# Altium footprint library AMP Footprints.PcbLib: 903 footprints (part 57 of 58)
Each footprint in its own frame and in the unit in brackets; x right, y up, seen from the top. Pads: shape width x height; smd on the part's side, far side on the other; paste and mask are expansions set on the pad; w line width, h text height; cw(c..) or ccw(c..) is an arc to the next point about the centre after c.
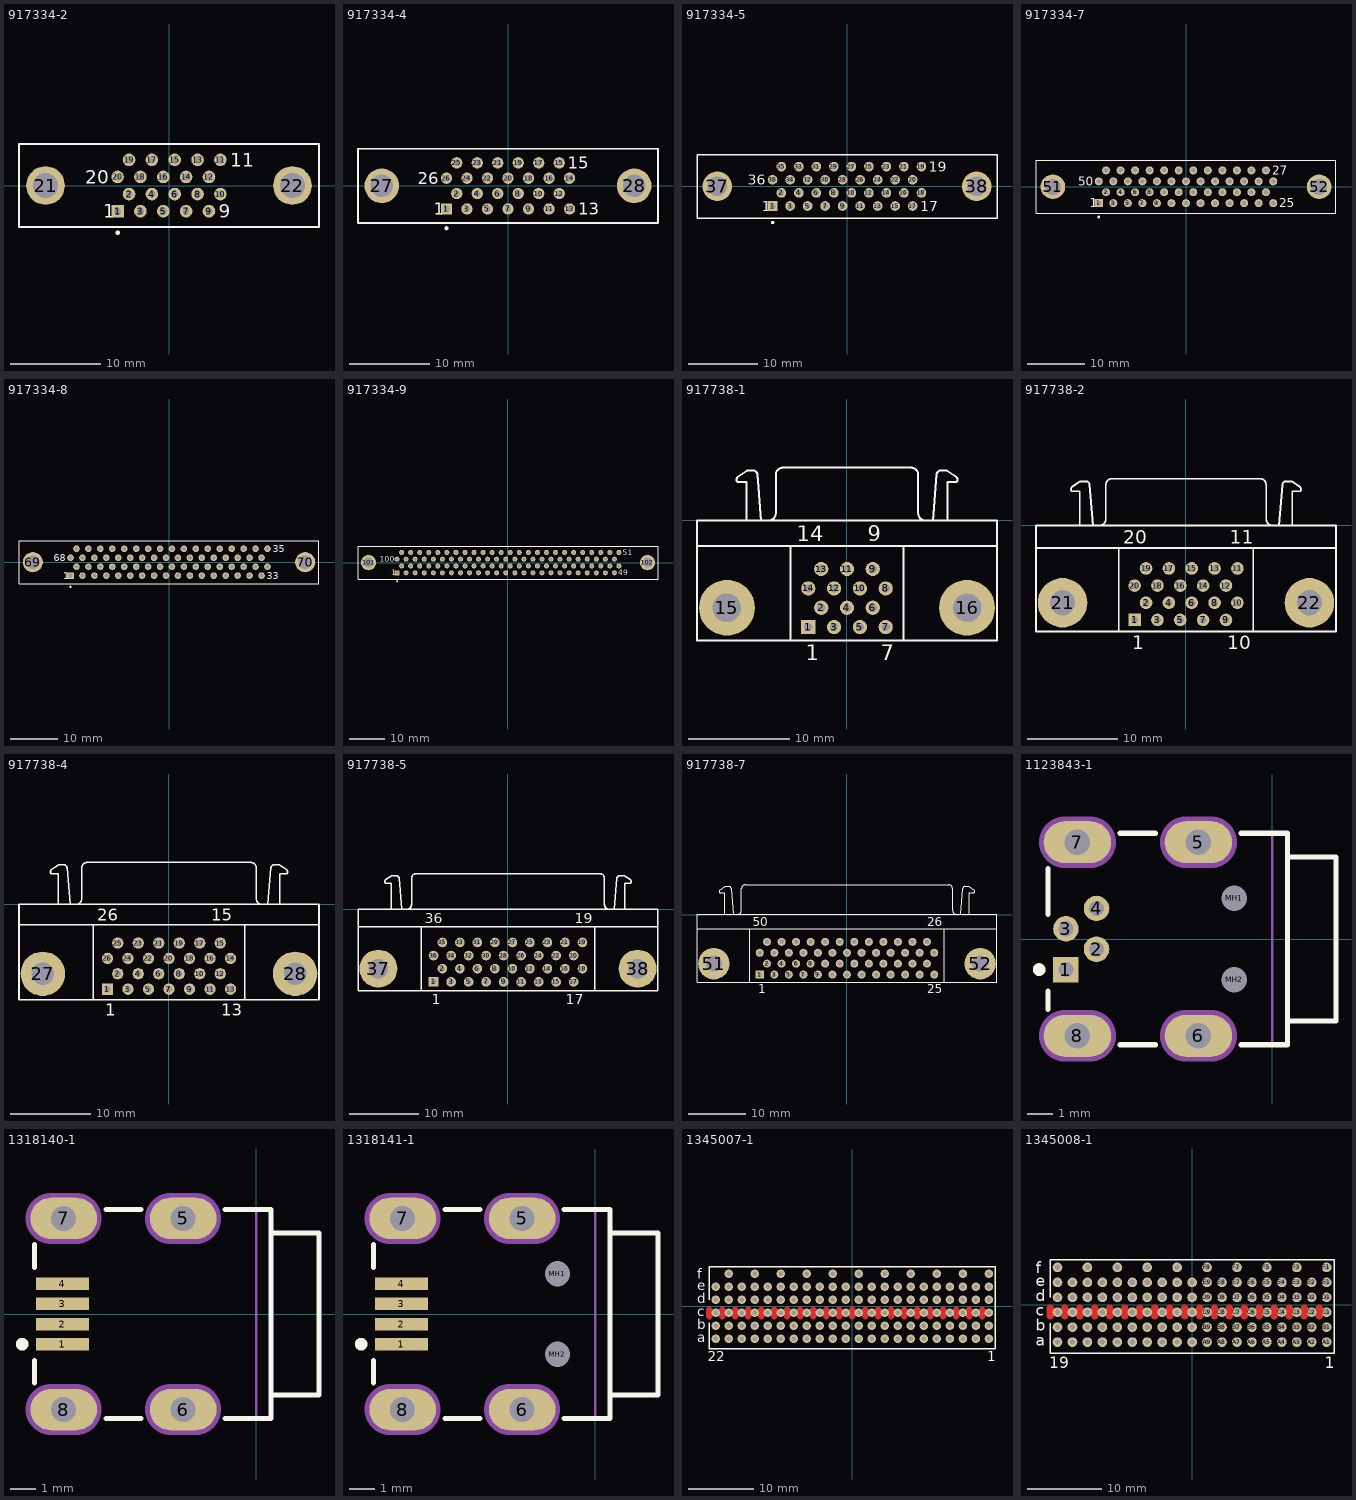
[diagram p56: the footprints below, top view; thin cyan lines are the x and y axes]

## 917334-2 [mm] "Connector; CHAMP Miniature Ribbon 050 Series II; 20 Position; Vertical"
height 11.1
pads (22):
  rect 1.4x1.4 hole 0.8: 1(-5.715,-2.857)
  round 1.4 hole 0.8: 2(-4.445,-0.953) 3(-3.175,-2.857) 4(-1.905,-0.953) 5(-0.635,-2.857) 6(0.635,-0.953) 7(1.905,-2.857) 8(3.175,-0.953) 9(4.445,-2.857) 10(5.715,-0.953) 11(5.715,2.857) 12(4.445,0.953) 13(3.175,2.857) 14(1.905,0.953) 15(0.635,2.857) 16(-0.635,0.953) 17(-1.905,2.857) 18(-3.175,0.953) 19(-4.445,2.857) 20(-5.715,0.953)
  round 4.3 hole 2.8: 21(-13.725,0) 22(13.725,0)
Top Overlay:
  circle w0.25: c-5.715,-5.25 r0.125
  lines w0.2: -16.675,-4.6 -16.675,4.6 16.675,4.6 16.675,-4.6 -16.675,-4.6
  text "1" at -7.29,-3.608 h1.5
  text "11" at 6.79,2.107 h1.5
  text "20" at -9.29,0.202 h1.5
  text "9" at 5.52,-3.608 h1.5

## 917334-4 [mm] "Connector; CHAMP Miniature Ribbon 050 Series II; 26 Position; Vertical"
height 11.1
pads (28):
  rect 1.4x1.4 hole 0.8: 1(-7.62,-2.857)
  round 1.4 hole 0.8: 2(-6.35,-0.953) 3(-5.08,-2.857) 4(-3.81,-0.953) 5(-2.54,-2.857) 6(-1.27,-0.953) 7(0,-2.857) 8(1.27,-0.953) 9(2.54,-2.857) 10(3.81,-0.953) 11(5.08,-2.857) 12(6.35,-0.953) 13(7.62,-2.857) 14(7.62,0.953) 15(6.35,2.857) 16(5.08,0.953) 17(3.81,2.857) 18(2.54,0.953) 19(1.27,2.857) 20(0,0.953) 21(-1.27,2.857) 22(-2.54,0.953) 23(-3.81,2.857) 24(-5.08,0.953) 25(-6.35,2.857) 26(-7.62,0.953)
  round 4.3 hole 2.8: 27(-15.63,0) 28(15.63,0)
Top Overlay:
  circle w0.25: c-7.62,-5.25 r0.125
  lines w0.2: -18.58,-4.6 -18.58,4.6 18.58,4.6 18.58,-4.6 -18.58,-4.6
  text "1" at -9.195,-3.608 h1.5
  text "13" at 8.695,-3.608 h1.5
  text "26" at -11.195,0.202 h1.5
  text "15" at 7.425,2.107 h1.5

## 917334-5 [mm] "Connector; CHAMP Miniature Ribbon 050 Series II; 36 Position; Vertical"
height 11.1
pads (38):
  rect 1.4x1.4 hole 0.8: 1(-10.795,-2.857)
  round 1.4 hole 0.8: 2(-9.525,-0.953) 3(-8.255,-2.857) 4(-6.985,-0.953) 5(-5.715,-2.857) 6(-4.445,-0.953) 7(-3.175,-2.857) 8(-1.905,-0.953) 9(-0.635,-2.857) 10(0.635,-0.953) 11(1.905,-2.857) 12(3.175,-0.953) 13(4.445,-2.857) 14(5.715,-0.953) 15(6.985,-2.857) 16(8.255,-0.953) 17(9.525,-2.857) 18(10.795,-0.953) 19(10.795,2.857) 20(9.525,0.953) 21(8.255,2.857) 22(6.985,0.953) 23(5.715,2.857) 24(4.445,0.953) 25(3.175,2.857) 26(1.905,0.953) 27(0.635,2.857) 28(-0.635,0.953) 29(-1.905,2.857) 30(-3.175,0.953) 31(-4.445,2.857) 32(-5.715,0.953) 33(-6.985,2.857) 34(-8.255,0.953) 35(-9.525,2.857) 36(-10.795,0.953)
  round 4.3 hole 2.8: 37(-18.805,0) 38(18.805,0)
Top Overlay:
  circle w0.25: c-10.795,-5.25 r0.125
  lines w0.2: -21.755,-4.6 21.755,-4.6 21.755,4.6 -21.755,4.6 -21.755,-4.6
  text "19" at 11.87,2.107 h1.5
  text "36" at -14.37,0.202 h1.5
  text "17" at 10.6,-3.608 h1.5
  text "1" at -12.37,-3.608 h1.5

## 917334-7 [mm] "Connector; CHAMP Miniature Ribbon 050 Series II; 50 Position; Vertical"
height 11.1
pads (52):
  rect 1.4x1.4 hole 0.8: 1(-15.24,-2.857)
  round 1.4 hole 0.8: 2(-13.97,-0.953) 3(-12.7,-2.857) 4(-11.43,-0.953) 5(-10.16,-2.857) 6(-8.89,-0.953) 7(-7.62,-2.857) 8(-6.35,-0.953) 9(-5.08,-2.857) 10(-3.81,-0.953) 11(-2.54,-2.857) 12(-1.27,-0.953) 13(0,-2.857) 14(1.27,-0.953) 15(2.54,-2.857) 16(3.81,-0.953) 17(5.08,-2.857) 18(6.35,-0.953) 19(7.62,-2.857) 20(8.89,-0.953) 21(10.16,-2.857) 22(11.43,-0.953) 23(12.7,-2.857) 24(13.97,-0.953) 25(15.24,-2.857) 26(15.24,0.953) 27(13.97,2.857) 28(12.7,0.953) 29(11.43,2.857) 30(10.16,0.953) 31(8.89,2.857) 32(7.62,0.953) 33(6.35,2.857) 34(5.08,0.953) 35(3.81,2.857) 36(2.54,0.953) 37(1.27,2.857) 38(0,0.953) 39(-1.27,2.857) 40(-2.54,0.953) 41(-3.81,2.857) 42(-5.08,0.953) 43(-6.35,2.857) 44(-7.62,0.953) 45(-8.89,2.857) 46(-10.16,0.953) 47(-11.43,2.857) 48(-12.7,0.953) 49(-13.97,2.857) 50(-15.24,0.953)
  round 4.3 hole 2.8: 51(-23.25,0) 52(23.25,0)
Top Overlay:
  circle w0.25: c-15.24,-5.25 r0.125
  lines w0.2: -26.2,-4.6 26.2,-4.6 26.2,4.6 -26.2,4.6 -26.2,-4.6
  text "25" at 16.315,-3.608 h1.5
  text "50" at -18.815,0.202 h1.5
  text "27" at 15.045,2.107 h1.5
  text "1" at -16.815,-3.608 h1.5

## 917334-8 [mm] "Connector; CHAMP Miniature Ribbon 050 Series II; 68 Position; Vertical"
height 11.1
pads (70):
  rect 1.4x1.4 hole 0.8: 1(-20.955,-2.857)
  round 1.4 hole 0.8: 2(-19.685,-0.953) 3(-18.415,-2.857) 4(-17.145,-0.953) 5(-15.875,-2.857) 6(-14.605,-0.953) 7(-13.335,-2.857) 8(-12.065,-0.953) 9(-10.795,-2.857) 10(-9.525,-0.953) 11(-8.255,-2.857) 12(-6.985,-0.953) 13(-5.715,-2.857) 14(-4.445,-0.953) 15(-3.175,-2.857) 16(-1.905,-0.953) 17(-0.635,-2.857) 18(0.635,-0.953) 19(1.905,-2.857) 20(3.175,-0.953) 21(4.445,-2.857) 22(5.715,-0.953) 23(6.985,-2.857) 24(8.255,-0.953) 25(9.525,-2.857) 26(10.795,-0.953) 27(12.065,-2.857) 28(13.335,-0.953) 29(14.605,-2.857) 30(15.875,-0.953) 31(17.145,-2.857) 32(18.415,-0.953) 33(19.685,-2.857) 34(20.955,-0.953) 35(20.955,2.857) 36(19.685,0.953) 37(18.415,2.857) 38(17.145,0.953) 39(15.875,2.857) 40(14.605,0.953) 41(13.335,2.857) 42(12.065,0.953) 43(10.795,2.857) 44(9.525,0.953) 45(8.255,2.857) 46(6.985,0.953) 47(5.715,2.857) 48(4.445,0.953) 49(3.175,2.857) 50(1.905,0.953) 51(0.635,2.857) 52(-0.635,0.953) 53(-1.905,2.857) 54(-3.175,0.953) 55(-4.445,2.857) 56(-5.715,0.953) 57(-6.985,2.857) 58(-8.255,0.953) 59(-9.525,2.857) 60(-10.795,0.953) 61(-12.065,2.857) 62(-13.335,0.953) 63(-14.605,2.857) 64(-15.875,0.953) 65(-17.145,2.857) 66(-18.415,0.953) 67(-19.685,2.857) 68(-20.955,0.953)
  round 4.3 hole 2.8: 69(-28.965,0) 70(28.965,0)
Top Overlay:
  circle w0.25: c-20.955,-5.25 r0.125
  lines w0.2: -31.915,-4.6 31.915,-4.6 31.915,4.6 -31.915,4.6 -31.915,-4.6
  text "1" at -22.53,-3.608 h1.5
  text "33" at 20.76,-3.608 h1.5
  text "68" at -24.53,0.202 h1.5
  text "35" at 22.03,2.107 h1.5

## 917334-9 [mm] "Connector; CHAMP Miniature Ribbon 050 Series II; 100 Position; Vertical"
height 11.1
pads (102):
  rect 1.4x1.4 hole 0.8: 1(-31.115,-2.857)
  round 1.4 hole 0.8: 2(-29.845,-0.953) 3(-28.575,-2.857) 4(-27.305,-0.953) 5(-26.035,-2.857) 6(-24.765,-0.953) 7(-23.495,-2.857) 8(-22.225,-0.953) 9(-20.955,-2.857) 10(-19.685,-0.953) 11(-18.415,-2.857) 12(-17.145,-0.953) 13(-15.875,-2.857) 14(-14.605,-0.953) 15(-13.335,-2.857) 16(-12.065,-0.953) 17(-10.795,-2.857) 18(-9.525,-0.953) 19(-8.255,-2.857) 20(-6.985,-0.953) 21(-5.715,-2.857) 22(-4.445,-0.953) 23(-3.175,-2.857) 24(-1.905,-0.953) 25(-0.635,-2.857) 26(0.635,-0.953) 27(1.905,-2.857) 28(3.175,-0.953) 29(4.445,-2.857) 30(5.715,-0.953) 31(6.985,-2.857) 32(8.255,-0.953) 33(9.525,-2.857) 34(10.795,-0.953) 35(12.065,-2.857) 36(13.335,-0.953) 37(14.605,-2.857) 38(15.875,-0.953) 39(17.145,-2.857) 40(18.415,-0.953) 41(19.685,-2.857) 42(20.955,-0.953) 43(22.225,-2.857) 44(23.495,-0.953) 45(24.765,-2.857) 46(26.035,-0.953) 47(27.305,-2.857) 48(28.575,-0.953) 49(29.845,-2.857) 50(31.115,-0.953) 51(31.115,2.857) 52(29.845,0.953) 53(28.575,2.857) 54(27.305,0.953) 55(26.035,2.857) 56(24.765,0.953) 57(23.495,2.857) 58(22.225,0.953) 59(20.955,2.857) 60(19.685,0.953) 61(18.415,2.857) 62(17.145,0.953) 63(15.875,2.857) 64(14.605,0.953) 65(13.335,2.857) 66(12.065,0.953) 67(10.795,2.857) 68(9.525,0.953) 69(8.255,2.857) 70(6.985,0.953) 71(5.715,2.857) 72(4.445,0.953) 73(3.175,2.857) 74(1.905,0.953) 75(0.635,2.857) 76(-0.635,0.953) 77(-1.905,2.857) 78(-3.175,0.953) 79(-4.445,2.857) 80(-5.715,0.953) 81(-6.985,2.857) 82(-8.255,0.953) 83(-9.525,2.857) 84(-10.795,0.953) 85(-12.065,2.857) 86(-13.335,0.953) 87(-14.605,2.857) 88(-15.875,0.953) 89(-17.145,2.857) 90(-18.415,0.953) 91(-19.685,2.857) 92(-20.955,0.953) 93(-22.225,2.857) 94(-23.495,0.953) 95(-24.765,2.857) 96(-26.035,0.953) 97(-27.305,2.857) 98(-28.575,0.953) 99(-29.845,2.857) 100(-31.115,0.953)
  round 4.3 hole 2.8: 101(-39.125,0) 102(39.125,0)
Top Overlay:
  circle w0.25: c-31.115,-5.25 r0.125
  lines w0.2: -42.075,-4.6 42.075,-4.6 42.075,4.6 -42.075,4.6 -42.075,-4.6
  text "51" at 32.19,2.107 h1.5
  text "49" at 30.92,-3.608 h1.5
  text "1" at -32.69,-3.608 h1.5
  text "100" at -35.94,0.202 h1.5

## 917738-1 [mm] "Connector; CHAMP Miniature Ribbon 050 Series II; 14 Position; Right Angle"
height 9.6
pads (16):
  rect 1.4x1.4 hole 0.8: 1(-3.81,-10.5)
  round 1.4 hole 0.8: 2(-2.54,-8.595) 3(-1.27,-10.5) 4(0,-8.595) 5(1.27,-10.5) 6(2.54,-8.595) 7(3.81,-10.5) 8(3.81,-6.69) 9(2.54,-4.785) 10(1.27,-6.69) 11(0,-4.785) 12(-1.27,-6.69) 13(-2.54,-4.785) 14(-3.81,-6.69)
  round 5.5 hole 2.8: 15(-11.82,-8.595) 16(11.82,-8.595)
Top Overlay:
  lines w0.2: -14.77,-2.5 14.77,-2.5 ; -10.785,4.27 -9.845,4.898 -9.123,4.898 cw(c-9.225,4.5) -8.815,4.5 ; -10.771,4.255 ccw(c-10.545,4.01) -10.795,3.79 -9.915,3.79 -9.915,0 ; -8.815,4.52 -8.445,0 ; -7.705,0.005 ccw(c-7.705,0.7) -7.01,0.7 -7.01,4.5 ; -7.005,4.505 cw(c-6.31,4.505) -6.31,5.2 6.31,5.2 cw(c6.31,4.505) 7.005,4.505 ; -5.57,-11.8 -5.57,-2.58 ; 5.57,-11.8 5.57,-2.5 ; 7.01,4.5 7.01,0.7 ccw(c7.705,0.7) 7.705,0.005 ; 8.445,0 8.815,4.52 ; 8.815,4.5 cw(c9.225,4.5) 9.123,4.898 9.845,4.898 10.785,4.27 ; 9.915,0 9.915,3.79 10.795,3.79 ccw(c10.545,4.01) 10.771,4.255 ; -14.77,-11.8 14.77,-11.8 14.77,0 -14.77,0 -14.77,-11.8
  text "9" at 2.04,-2.025 h1.5
  text "14" at -4.935,-2.025 h1.5
  text "1" at -4.06,-13.775 h1.5
  text "7" at 3.31,-13.775 h1.5

## 917738-2 [mm] "Connector; CHAMP Miniature Ribbon 050 Series II; 20 Position; Right Angle"
height 9.6
pads (22):
  rect 1.4x1.4 hole 0.8: 1(-5.715,-10.5)
  round 1.4 hole 0.8: 2(-4.445,-8.595) 3(-3.175,-10.5) 4(-1.905,-8.595) 5(-0.635,-10.5) 6(0.635,-8.595) 7(1.905,-10.5) 8(3.175,-8.595) 9(4.445,-10.5) 10(5.715,-8.595) 11(5.715,-4.785) 12(4.445,-6.69) 13(3.175,-4.785) 14(1.905,-6.69) 15(0.635,-4.785) 16(-0.635,-6.69) 17(-1.905,-4.785) 18(-3.175,-6.69) 19(-4.445,-4.785) 20(-5.715,-6.69)
  round 5.5 hole 2.8: 21(-13.725,-8.595) 22(13.725,-8.595)
Top Overlay:
  lines w0.2: -16.675,-2.5 16.675,-2.5 ; -12.69,4.27 -11.75,4.898 -11.028,4.898 cw(c-11.13,4.5) -10.72,4.5 ; -12.676,4.255 ccw(c-12.45,4.01) -12.7,3.79 -11.82,3.79 -11.82,0 ; -10.72,4.52 -10.35,0 ; -9.61,0.005 ccw(c-9.61,0.7) -8.915,0.7 -8.915,4.5 ; -8.91,4.505 cw(c-8.215,4.505) -8.215,5.2 8.215,5.2 cw(c8.215,4.505) 8.91,4.505 ; -7.475,-11.8 -7.475,-2.58 ; 7.475,-11.8 7.475,-2.5 ; 8.915,4.5 8.915,0.7 ccw(c9.61,0.7) 9.61,0.005 ; 10.35,0 10.72,4.52 ; 10.72,4.5 cw(c11.13,4.5) 11.028,4.898 11.75,4.898 12.69,4.27 ; 11.82,0 11.82,3.79 12.7,3.79 ccw(c12.45,4.01) 12.676,4.255 ; -16.675,-11.8 16.675,-11.8 16.675,0 -16.675,0 -16.675,-11.8
  text "11" at 4.84,-2.025 h1.5
  text "20" at -6.965,-2.025 h1.5
  text "10" at 4.59,-13.775 h1.5
  text "1" at -5.965,-13.775 h1.5

## 917738-4 [mm] "Connector; CHAMP Miniature Ribbon 050 Series II; 26 Position; Right Angle"
height 9.6
pads (28):
  rect 1.4x1.4 hole 0.8: 1(-7.62,-10.5)
  round 1.4 hole 0.8: 2(-6.35,-8.595) 3(-5.08,-10.5) 4(-3.81,-8.595) 5(-2.54,-10.5) 6(-1.27,-8.595) 7(0,-10.5) 8(1.27,-8.595) 9(2.54,-10.5) 10(3.81,-8.595) 11(5.08,-10.5) 12(6.35,-8.595) 13(7.62,-10.5) 14(7.62,-6.69) 15(6.35,-4.785) 16(5.08,-6.69) 17(3.81,-4.785) 18(2.54,-6.69) 19(1.27,-4.785) 20(0,-6.69) 21(-1.27,-4.785) 22(-2.54,-6.69) 23(-3.81,-4.785) 24(-5.08,-6.69) 25(-6.35,-4.785) 26(-7.62,-6.69)
  round 5.5 hole 2.8: 27(-15.63,-8.595) 28(15.63,-8.595)
Top Overlay:
  lines w0.2: -18.58,-2.5 18.58,-2.5 ; -14.595,4.27 -13.655,4.898 -12.933,4.898 cw(c-13.035,4.5) -12.625,4.5 ; -14.581,4.255 ccw(c-14.355,4.01) -14.605,3.79 -13.725,3.79 -13.725,0 ; -12.625,4.52 -12.255,0 ; -11.515,0.005 ccw(c-11.515,0.7) -10.82,0.7 -10.82,4.5 ; -10.815,4.505 cw(c-10.12,4.505) -10.12,5.2 10.12,5.2 cw(c10.12,4.505) 10.815,4.505 ; -9.38,-11.8 -9.38,-2.58 ; 9.38,-11.8 9.38,-2.5 ; 10.82,4.5 10.82,0.7 ccw(c11.515,0.7) 11.515,0.005 ; 12.255,0 12.625,4.52 ; 12.625,4.5 cw(c13.035,4.5) 12.933,4.898 13.655,4.898 14.595,4.27 ; 13.725,0 13.725,3.79 14.605,3.79 ccw(c14.355,4.01) 14.581,4.255 ; -18.58,-11.8 -18.58,0 18.58,0 18.58,-11.8 -18.58,-11.8
  text "13" at 6.495,-13.775 h1.5
  text "26" at -8.87,-2.025 h1.5
  text "15" at 5.225,-2.025 h1.5
  text "1" at -7.87,-13.775 h1.5

## 917738-5 [mm] "Connector; CHAMP Miniature Ribbon 050 Series II; 36 Position; Right Angle"
height 9.6
pads (38):
  rect 1.4x1.4 hole 0.8: 1(-10.795,-10.5)
  round 1.4 hole 0.8: 2(-9.525,-8.595) 3(-8.255,-10.5) 4(-6.985,-8.595) 5(-5.715,-10.5) 6(-4.445,-8.595) 7(-3.175,-10.5) 8(-1.905,-8.595) 9(-0.635,-10.5) 10(0.635,-8.595) 11(1.905,-10.5) 12(3.175,-8.595) 13(4.445,-10.5) 14(5.715,-8.595) 15(6.985,-10.5) 16(8.255,-8.595) 17(9.525,-10.5) 18(10.795,-8.595) 19(10.795,-4.785) 20(9.525,-6.69) 21(8.255,-4.785) 22(6.985,-6.69) 23(5.715,-4.785) 24(4.445,-6.69) 25(3.175,-4.785) 26(1.905,-6.69) 27(0.635,-4.785) 28(-0.635,-6.69) 29(-1.905,-4.785) 30(-3.175,-6.69) 31(-4.445,-4.785) 32(-5.715,-6.69) 33(-6.985,-4.785) 34(-8.255,-6.69) 35(-9.525,-4.785) 36(-10.795,-6.69)
  round 5.5 hole 2.8: 37(-18.805,-8.595) 38(18.805,-8.595)
Top Overlay:
  lines w0.2: -21.755,-2.5 21.755,-2.5 ; -17.77,4.27 -16.83,4.898 -16.108,4.898 cw(c-16.21,4.5) -15.8,4.5 ; -17.756,4.255 ccw(c-17.53,4.01) -17.78,3.79 -16.9,3.79 -16.9,0 ; -15.8,4.52 -15.43,0 ; -14.69,0.005 ccw(c-14.69,0.7) -13.995,0.7 -13.995,4.5 ; -13.99,4.505 cw(c-13.295,4.505) -13.295,5.2 13.295,5.2 cw(c13.295,4.505) 13.99,4.505 ; -12.555,-11.8 -12.555,-2.58 ; 12.555,-11.8 12.555,-2.5 ; 13.995,4.5 13.995,0.7 ccw(c14.69,0.7) 14.69,0.005 ; 15.43,0 15.8,4.52 ; 15.8,4.5 cw(c16.21,4.5) 16.108,4.898 16.83,4.898 17.77,4.27 ; 16.9,0 16.9,3.79 17.78,3.79 ccw(c17.53,4.01) 17.756,4.255 ; -21.755,-11.8 21.755,-11.8 21.755,0 -21.755,0 -21.755,-11.8
  text "19" at 9.67,-2.025 h1.5
  text "36" at -12.045,-2.025 h1.5
  text "17" at 8.4,-13.775 h1.5
  text "1" at -11.045,-13.775 h1.5

## 917738-7 [mm] "Connector; CHAMP Miniature Ribbon 050 Series II; 50 Position; Right Angle"
height 9.6
pads (52):
  rect 1.4x1.4 hole 0.8: 1(-15.24,-10.477)
  round 1.4 hole 0.8: 2(-13.97,-8.572) 3(-12.7,-10.477) 4(-11.43,-8.572) 5(-10.16,-10.477) 6(-8.89,-8.572) 7(-7.62,-10.477) 8(-6.35,-8.572) 9(-5.08,-10.477) 10(-3.81,-8.572) 11(-2.54,-10.477) 12(-1.27,-8.572) 13(0,-10.477) 14(1.27,-8.572) 15(2.54,-10.477) 16(3.81,-8.572) 17(5.08,-10.477) 18(6.35,-8.572) 19(7.62,-10.477) 20(8.89,-8.572) 21(10.16,-10.477) 22(11.43,-8.572) 23(12.7,-10.477) 24(13.97,-8.572) 25(15.24,-10.477) 26(15.24,-6.667) 27(13.97,-4.763) 28(12.7,-6.667) 29(11.43,-4.763) 30(10.16,-6.667) 31(8.89,-4.763) 32(7.62,-6.667) 33(6.35,-4.763) 34(5.08,-6.667) 35(3.81,-4.763) 36(2.54,-6.667) 37(1.27,-4.763) 38(0,-6.667) 39(-1.27,-4.763) 40(-2.54,-6.667) 41(-3.81,-4.763) 42(-5.08,-6.667) 43(-6.35,-4.763) 44(-7.62,-6.667) 45(-8.89,-4.763) 46(-10.16,-6.667) 47(-11.43,-4.763) 48(-12.7,-6.667) 49(-13.97,-4.763) 50(-15.24,-6.667)
  round 5.5 hole 2.8: 51(-23.25,-8.572) 52(23.25,-8.572)
Top Overlay:
  lines w0.2: -26.2,-2.478 26.2,-2.478 ; -22.215,4.292 -21.275,4.92 -20.553,4.92 cw(c-20.655,4.523) -20.245,4.523 ; -22.201,4.277 ccw(c-21.975,4.032) -22.225,3.812 -21.345,3.813 -21.345,0.022 ; -20.245,4.543 -19.875,0.022 ; -19.135,0.028 ccw(c-19.135,0.723) -18.44,0.723 -18.44,4.523 ; -18.435,4.527 cw(c-17.74,4.527) -17.74,5.222 17.74,5.222 cw(c17.74,4.527) 18.435,4.527 ; -17,-11.777 -17,-2.558 ; 17,-11.777 17,-2.478 ; 18.44,4.523 18.44,0.723 ccw(c19.135,0.723) 19.135,0.028 ; 19.875,0.022 20.245,4.543 ; 20.245,4.523 cw(c20.655,4.523) 20.553,4.92 21.275,4.92 22.215,4.292 ; 21.345,0.022 21.345,3.812 22.225,3.813 ccw(c21.975,4.032) 22.201,4.277 ; -26.2,-11.777 -26.2,0.022 26.2,0.022 26.2,-11.777 -26.2,-11.777
  text "1" at -15.49,-13.752 h1.5
  text "25" at 13.99,-13.752 h1.5
  text "50" at -16.49,-2.003 h1.5
  text "26" at 13.99,-2.003 h1.5

## 1123843-1 [mm] "Connector; IEEE1394, Thru-Hole; 4 Position; Vertical"
height 9.7
pads (10):
  rect 1x1 hole 0.6: 1(-8.1,-1.199)
  round 1 hole 0.6: 2(-6.9,-0.399) 3(-8.1,0.401) 4(-6.9,1.201)
  oval 2.65x1.65 hole 1: 5(-2.9,3.801) 6(-2.9,-3.799) 7(-7.65,3.801) 8(-7.65,-3.799)
  round 0.7 hole 1 unplated: MH1(-1.5,1.601) MH2(-1.5,-1.599)
Top Overlay:
  circle w0.25: c-9.151,-1.199 r0.125
  lines w0.2: -8.8,-2.759 -8.8,-2.049 ; -8.8,0.971 -8.8,2.761 ; -5.97,-4.149 -4.58,-4.149 ; -5.97,4.151 -4.58,4.151 ; -1.23,-4.149 0.6,-4.149 0.6,4.151 -1.23,4.151 ; 0.6,-3.224 2.5,-3.224 2.5,3.226 0.6,3.226
Mechanical 1:
  lines w0.1: 0,-4.149 0,4.151
  lines w1: -8.15,-3.799 -7.15,-3.799 ; -8.15,3.801 -7.15,3.801 ; -3.4,-3.799 -2.4,-3.799 ; -3.4,3.801 -2.4,3.801
  text "Alert PCB fab to slot details" at -9.5,6.571 h0.3
  text "Slot 1x2mm, PTH" at -9.5,6.071 h0.3
  text "Assign keep-out area to slot" at -9.5,7.071 h0.3
  text "Mech 1 - Slot cut-out" at -9.5,5.571 h0.3
  text "Mech 2 - Clearance, move to internal plane if present" at -9.5,5.071 h0.3
  text "PCB Edge" at 0.37,-3.705 h0.25
Mechanical 2:
  lines w2.016: -8.15,-3.799 -7.15,-3.799 ; -8.15,3.801 -7.15,3.801 ; -3.4,-3.799 -2.4,-3.799 ; -3.4,3.801 -2.4,3.801

## 1318140-1 [mm] "Connector; IEEE1394, SM; 4 Position; Vertical"
height 11.1
pads (8):
  rect 2.1x0.5 smd: 1(-7.7,-1.199) 2(-7.7,-0.399) 3(-7.7,0.401) 4(-7.7,1.201)
  oval 2.65x1.65 hole 1: 5(-2.9,3.801) 6(-2.9,-3.799) 7(-7.65,3.801) 8(-7.65,-3.799)
Top Overlay:
  circle w0.25: c-9.3,-1.199 r0.125
  lines w0.2: -8.8,-2.749 -8.8,-1.849 ; -8.8,1.85 -8.8,2.76 ; -5.97,-4.149 -4.58,-4.149 ; -5.97,4.151 -4.58,4.151 ; -1.23,-4.149 0.6,-4.149 0.6,4.15 -1.23,4.151 ; 0.6,-3.224 2.5,-3.224 2.5,3.226 0.6,3.226
Mechanical 1:
  lines w0.1: 0,-4.149 0,4.151
  lines w1: -8.15,-3.799 -7.15,-3.799 ; -8.15,3.801 -7.15,3.801 ; -3.4,-3.799 -2.4,-3.799 ; -3.4,3.801 -2.4,3.801
  text "PCB Edge" at 0.35,-3.6 h0.25
  text "Mech 2 - Clearance, move to internal plane if present" at -9.5,5.071 h0.3
  text "Mech 1 - Slot cut-out" at -9.5,5.57 h0.3
  text "Assign keep-out area to slot" at -9.5,7.071 h0.3
  text "Slot 1x2mm, PTH" at -9.5,6.071 h0.3
  text "Alert PCB fab to slot details" at -9.5,6.57 h0.3
Mechanical 2:
  lines w2.016: -8.15,-3.799 -7.15,-3.799 ; -8.15,3.801 -7.15,3.801 ; -3.4,-3.799 -2.4,-3.799 ; -3.4,3.801 -2.4,3.801

## 1318141-1 [mm] "Connector; IEEE1394, SM; 4 Position; Vertical"
height 9.7
pads (10):
  rect 2.1x0.5 smd: 1(-7.7,-1.2) 2(-7.7,-0.4) 3(-7.7,0.4) 4(-7.7,1.2)
  oval 2.65x1.65 hole 1: 5(-2.9,3.8) 6(-2.9,-3.8) 7(-7.65,3.8) 8(-7.65,-3.8)
  round 0.7 hole 1 unplated: MH1(-1.5,1.6) MH2(-1.5,-1.6)
Top Overlay:
  circle w0.25: c-9.3,-1.2 r0.125
  lines w0.2: -8.8,-2.75 -8.8,-1.85 ; -8.8,1.85 -8.8,2.76 ; -5.97,-4.15 -4.58,-4.15 ; -5.97,4.15 -4.58,4.15 ; -1.229,-4.149 0.6,-4.149 ; -1.229,4.151 0.6,4.151 0.6,-4.15 ; 0.6,-3.225 2.5,-3.225 2.5,3.225 0.6,3.225
Mechanical 1:
  lines w0.1: 0,-4.15 0,4.15
  lines w1: -8.15,-3.8 -7.15,-3.8 ; -8.15,3.8 -7.15,3.8 ; -3.4,-3.8 -2.4,-3.8 ; -3.4,3.8 -2.4,3.8
  text "Alert PCB fab to slot details" at -9.5,6.57 h0.3
  text "Slot 1x2mm, PTH" at -9.5,6.07 h0.3
  text "Assign keep-out area to slot" at -9.5,7.07 h0.3
  text "Mech 1 - Slot cut-out" at -9.5,5.57 h0.3
  text "Mech 2 - Clearance, move to internal plane if present" at -9.5,5.07 h0.3
  text "PCB Edge" at 0.35,-3.6 h0.25
Mechanical 2:
  lines w2.016: -8.15,-3.8 -7.15,-3.8 ; -8.15,3.8 -7.15,3.8 ; -3.4,-3.8 -2.4,-3.8 ; -3.4,3.8 -2.4,3.8

## 1345007-1 [mm] "Connector; CompactPCI; 110 Position; Right Angle"
height 8.2
pads (121):
  round 1.3 hole 0.7: A1(21,-5) A2(19,-5) A3(17,-5) A4(15,-5) A5(13,-5) A6(11,-5) A7(9,-5) A8(7,-5) A9(5,-5) A10(3,-5) A11(1,-5) A12(-1,-5) A13(-3,-5) A14(-5,-5) A15(-7,-5) A16(-9,-5) A17(-11,-5) A18(-13,-5) A19(-15,-5) A20(-17,-5) A21(-19,-5) A22(-21,-5) B1(21,-3) B2(19,-3) B3(17,-3) B4(15,-3) B5(13,-3) B6(11,-3) B7(9,-3) B8(7,-3) B9(5,-3) B10(3,-3) B11(1,-3) B12(-1,-3) B13(-3,-3) B14(-5,-3) B15(-7,-3) B16(-9,-3) B17(-11,-3) B18(-13,-3) B19(-15,-3) B20(-17,-3) B21(-19,-3) B22(-21,-3) C1(21,-1) C2(19,-1) C3(17,-1) C4(15,-1) C5(13,-1) C6(11,-1) C7(9,-1) C8(7,-1) C9(5,-1) C10(3,-1) C11(1,-1) C12(-1,-1) C13(-3,-1) C14(-5,-1) C15(-7,-1) C16(-9,-1) C17(-11,-1) C18(-13,-1) C19(-15,-1) C20(-17,-1) C21(-19,-1) C22(-21,-1) D1(21,1) D2(19,1) D3(17,1) D4(15,1) D5(13,1) D6(11,1) D7(9,1) D8(7,1) D9(5,1) D10(3,1) D11(1,1) D12(-1,1) D13(-3,1) D14(-5,1) D15(-7,1) D16(-9,1) D17(-11,1) D18(-13,1) D19(-15,1) D20(-17,1) D21(-19,1) D22(-21,1) E1(21,3) E2(19,3) E3(17,3) E4(15,3) E5(13,3) E6(11,3) E7(9,3) E8(7,3) E9(5,3) E10(3,3) E11(1,3) E12(-1,3) E13(-3,3) E14(-5,3) E15(-7,3) E16(-9,3) E17(-11,3) E18(-13,3) E19(-15,3) E20(-17,3) E21(-19,3) E22(-21,3) F1(21,5) F3(17,5) F5(13,5) F7(9,5) F9(5,5) F11(1,5) F13(-3,5) F15(-7,5) F17(-11,5) F19(-15,5) F21(-19,5)
Top Layer:
  lines w1: -22,-1.5 -22,-0.5 ; -20,-1.5 -20,-0.5 ; -18,-1.5 -18,-0.5 ; -16,-1.5 -16,-0.5 ; -14,-1.5 -14,-0.5 ; -12,-1.5 -12,-0.5 ; -10,-1.5 -10,-0.5 ; -8,-1.5 -8,-0.5 ; -6,-1.5 -6,-0.5 ; -4,-1.5 -4,-0.5 ; -2,-1.5 -2,-0.5 ; 0,-1.5 0,-0.5 ; 2,-1.5 2,-0.5 ; 4,-1.5 4,-0.5 ; 6,-1.5 6,-0.5 ; 8,-1.5 8,-0.5 ; 10,-1.5 10,-0.5 ; 12,-1.5 12,-0.5 ; 14,-1.5 14,-0.5 ; 16,-1.5 16,-0.5 ; 18,-1.5 18,-0.5 ; 20,-1.5 20,-0.5
Top Overlay:
  lines w0.2: -22,-2.5 -22,-6.5 22,-6.5 22,6.1 -22,6.1 -22,1
  text "22" at -22.25,-8.475 h1.5
  text "1" at 20.75,-8.475 h1.5
  text "e" at -23.875,2.5 h1.5
  text "d" at -23.875,0.5 h1.5
  text "c" at -23.875,-1.5 h1.5
  text "b" at -23.875,-3.5 h1.5
  text "a" at -23.875,-5.5 h1.5
  text "f" at -23.875,4.225 h1.5

## 1345008-1 [mm] "Connector; CompactPCI; 95 Position; Right Angle"
height 8.2
pads (105):
  round 1.3 hole 0.7: A1(18,-5) A2(16,-5) A3(14,-5) A4(12,-5) A5(10,-5) A6(8,-5) A7(6,-5) A8(4,-5) A9(2,-5) A10(0,-5) A11(-2,-5) A12(-4,-5) A13(-6,-5) A14(-8,-5) A15(-10,-5) A16(-12,-5) A17(-14,-5) A18(-16,-5) A19(-18,-5) B1(18,-3) B2(16,-3) B3(14,-3) B4(12,-3) B5(10,-3) B6(8,-3) B7(6,-3) B8(4,-3) B9(2,-3) B10(0,-3) B11(-2,-3) B12(-4,-3) B13(-6,-3) B14(-8,-3) B15(-10,-3) B16(-12,-3) B17(-14,-3) B18(-16,-3) B19(-18,-3) C1(18,-1) C2(16,-1) C3(14,-1) C4(12,-1) C5(10,-1) C6(8,-1) C7(6,-1) C8(4,-1) C9(2,-1) C10(0,-1) C11(-2,-1) C12(-4,-1) C13(-6,-1) C14(-8,-1) C15(-10,-1) C16(-12,-1) C17(-14,-1) C18(-16,-1) C19(-18,-1) D1(18,1) D2(16,1) D3(14,1) D4(12,1) D5(10,1) D6(8,1) D7(6,1) D8(4,1) D9(2,1) D10(0,1) D11(-2,1) D12(-4,1) D13(-6,1) D14(-8,1) D15(-10,1) D16(-12,1) D17(-14,1) D18(-16,1) D19(-18,1) E1(18,3) E2(16,3) E3(14,3) E4(12,3) E5(10,3) E6(8,3) E7(6,3) E8(4,3) E9(2,3) E10(0,3) E11(-2,3) E12(-4,3) E13(-6,3) E14(-8,3) E15(-10,3) E16(-12,3) E17(-14,3) E18(-16,3) E19(-18,3) F1(18,5) F3(14,5) F5(10,5) F7(6,5) F9(2,5) F11(-2,5) F13(-6,5) F15(-10,5) F17(-14,5) F19(-18,5)
Top Layer:
  lines w1: -19,-1.5 -19,-0.5 ; -17,-1.5 -17,-0.5 ; -15,-1.5 -15,-0.5 ; -13,-1.5 -13,-0.5 ; -11,-1.5 -11,-0.5 ; -9,-1.5 -9,-0.5 ; -7,-1.5 -7,-0.5 ; -5,-1.5 -5,-0.5 ; -3,-1.5 -3,-0.5 ; -1,-1.5 -1,-0.5 ; 1,-1.5 1,-0.5 ; 3,-1.5 3,-0.5 ; 5,-1.5 5,-0.5 ; 7,-1.5 7,-0.5 ; 9,-1.5 9,-0.5 ; 11,-1.5 11,-0.5 ; 13,-1.5 13,-0.5 ; 15,-1.5 15,-0.5 ; 17,-1.5 17,-0.5
Top Overlay:
  lines w0.2: -19,-2.5 -19,-6.5 19,-6.5 19,6 -19,6 -19,1
  text "19" at -19.125,-8.475 h1.5
  text "1" at 17.75,-8.475 h1.5
  text "a" at -20.875,-5.5 h1.5
  text "b" at -20.875,-3.5 h1.5
  text "c" at -20.875,-1.5 h1.5
  text "d" at -20.875,0.5 h1.5
  text "e" at -20.875,2.5 h1.5
  text "f" at -20.875,4.225 h1.5